# Altium footprint library HX710B.PCBLIB: 2 footprints
Each footprint in its own frame and in the unit in brackets; x right, y up, seen from the top. Pads: shape width x height; smd on the part's side, far side on the other; paste and mask are expansions set on the pad; w line width, h text height; cw(c..) or ccw(c..) is an arc to the next point about the centre after c.
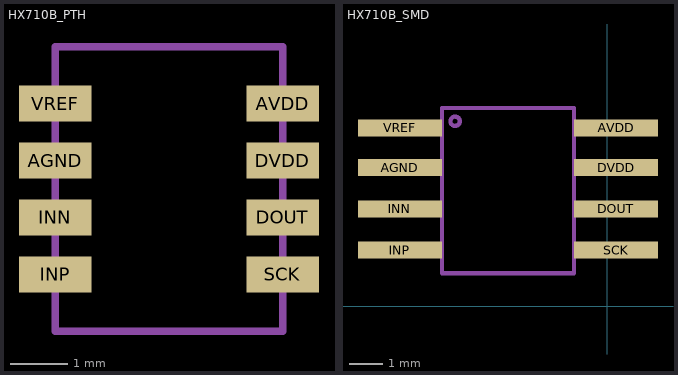
[diagram p0: the footprints below, top view; thin cyan lines are the x and y axes]

## HX710B_PTH [mm]
pads (8):
  rect 1.27x0.635 smd: AGND(-5,4) AVDD(-1,5) DOUT(-1,3) DVDD(-1,4) INN(-5,3) INP(-5,2) SCK(-1,2) VREF(-5,5)
tPlace:
  lines w0.127: -5,1 -5,6 -1,6 -1,1 -5,1

## HX710B_SMD [mm]
pads (8):
  rect 2.54x0.51 smd: AGND(-6.27,4.2) AVDD(0.27,5.4) DOUT(0.27,2.95) DVDD(0.27,4.2) INN(-6.27,2.95) INP(-6.27,1.7) SCK(0.27,1.7) VREF(-6.27,5.4)
tPlace:
  circle w0.127: c-4.6,5.6 r0.141
  lines w0.127: -5,1 -5,6 -1,6 -1,1 -5,1